# Altium schematic symbol library ic-power-module.SchLib: 4 symbols
Pins are listed as number, name and electrical type; pins without a type are passive.

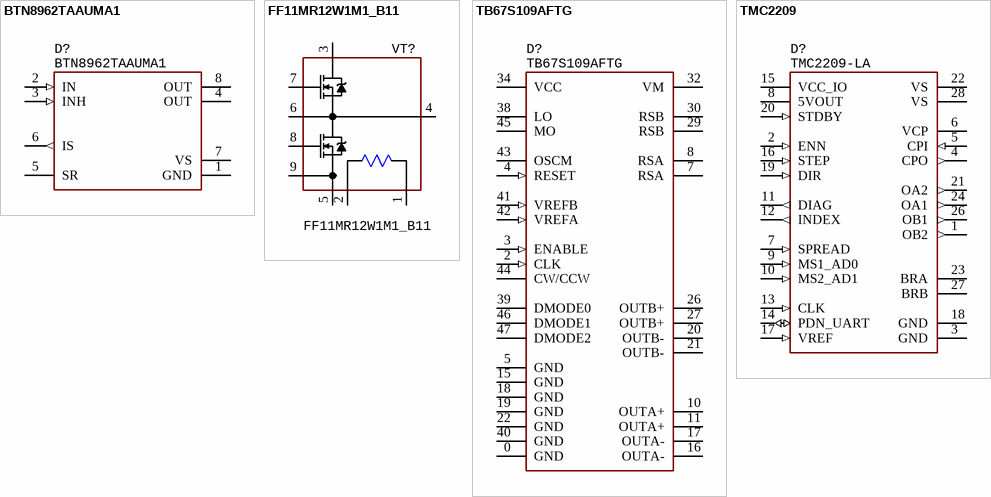
[diagram p0: symbols BTN8962TAAUMA1 to TMC2209]

## BTN8962TAAUMA1
designator D?  PartNumber: BTN8962TAAUMA1
Brushed half-bridge; Manufacturer: Infineon; ValueManufacturerPartNumber: Brushed half-bridge, 40V, 7.5/6.7mOhm, 40A, supply 8...18V, -40...+150°C, TO-263-7; VoltageSupply: supply 8...18V; Frequency: 7.5/6.7mOhm; CurrentOutput: 40A; VoltageWork: 40V; HelpURL: https://ru.mouser.com/ProductDetail/Infineon-Technologies/BTN8962TAAUMA1?qs=WkdRfq4wf1PW7zeUayII0w%3D%3D; Package: TO-263-7; ComponentType: Brushed half-bridge; Temperature: -40...+150°C
footprint TO263-7 (TO263-7 (D2Pak, 7-Pads))
pins: 1 GND, 2 IN (in), 3 INH (in), 4 OUT, 5 SR, 6 IS (out), 7 VS, 8 OUT

## FF11MR12W1M1_B11
designator VT?  PartNumber: FF11MR12W1M1_B11
SiC half-bridge; Manufacturer: Infineon Technologies; ValueManufacturerPartNumber: Dual SiC module, 1200V, 100A, 238nC, 682W, 11 mOhms, Easy B1, -55...+125°C; TypeTransistor: Dual SiC module; VoltageDS: 1200V; CurrentDS: 100A; RDS: 11 mOhms; GateCharge: 238nC; MaxPower: 682W; Package: Easy B1; HelpURL: https://ru.mouser.com/ProductDetail/Infineon-Technologies/FF11MR12W1M1B11BOMA1?qs=sGAEpiMZZMve4%2FbfQkoj%252BMs%252BHhAJ5BiNWWSXLBNhDy8%3D; Temperature: -55...+125°C
footprint MOD: FF11MR12W1M1_B11
pins: 1, 2, 3, 4, 5, 6, 7, 8, 9

## TB67S109AFTG
designator D?  PartNumber: TB67S109AFTG
Stepper motor driver; Manufacturer: TOSHIBA; VoltageSupply: supply -0.5..5.5V; CurrentOutput: 3A; Voltage Range: 10… 48V DC; HelpURL: https://toshiba.semicon-storage.com/ap-en/semiconductor/product/motor-driver-ics/stepping-motor-driver-ics/detail.TB67S109AFTG.html; Package: 48-QFN; ComponentType: Stepper motor driver; ValueManufacturerPartNumber: =ComponentType+', '+VoltageWork+', '+Frequency+', '+CurrentOutput+', '+CMTI+', '+VoltageSupply+', '+Temperature+', '+Package; Temperature: -50...+150°C
footprint 48-QFN (7x7) (7x7 mm, pitch 0.5 mm, power pad)
pins: 0 GND, 2 CLK (in), 3 ENABLE (in), 4 RESET (in), 5 GND, 7 RSA, 8 RSA, 10 OUTA+, 11 OUTA+, 15 GND, 16 OUTA-, 17 OUTA-, 18 GND, 19 GND, 20 OUTB-, 21 OUTB-, 22 GND, 26 OUTB+, 27 OUTB+, 29 RSB, 30 RSB, 32 VM (power), 34 VCC (power), 38 LO, 39 DMODE0, 40 GND, 41 VREFB (in), 42 VREFA (in), 43 OSCM, 44 CW/CCW, 45 MO, 46 DMODE1, 47 DMODE2

## TMC2209
designator D?  PartNumber: TMC2209-LA
Stepper motor driver; Manufacturer: TRINAMIC; VoltageSupply: supply -0.5..5.5V; CurrentOutput: 2.8A; Voltage Range: 4.75… 29V DC; HelpURL: https://www.trinamic.com/products/integrated-circuits/details/tmc2209-la/; Package: 28-QFN; ComponentType: Stepper motor driver; ValueManufacturerPartNumber: =ComponentType+', '+VoltageWork+', '+Frequency+', '+CurrentOutput+', '+CMTI+', '+VoltageSupply+', '+Temperature+', '+Package; Temperature: -50...+150°C
footprint 28-QFN (5x5) (5x5 mm, pitch 0.5 mm, power pad)
pins: 1 OB2 (out), 2 ENN (in), 3 GND, 4 CPO (out), 5 CPI (in), 6 VCP, 7 SPREAD (in), 8 5VOUT (power), 9 MS1_AD0 (in), 10 MS2_AD1 (in), 11 DIAG (out), 12 INDEX (out), 13 CLK (in), 14 PDN_UART (io), 15 VCC_IO (power), 16 STEP (in), 17 VREF (in), 18 GND, 19 DIR (in), 20 STDBY (in), 21 OA2 (out), 22 VS (power), 23 BRA, 24 OA1 (out), 26 OB1 (out), 27 BRB, 28 VS (power)